# Altium schematic symbol library pin li-on 3x5cm.SchLib: 1 symbol
Pins are listed as number, name and electrical type; pins without a type are passive.

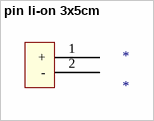
[diagram p0: symbol pin li-on 3x5cm]

## pin li-on 3x5cm
designator *
Kích thước: 3x5cm; Dung lượng pin: 1000mAh
footprint pin li-on 3x5cm
pins: 1 +, 2 -